# Altium schematic symbol library Sparkfun.SchLib: 1 symbol
Pins are listed as number, name and electrical type; pins without a type are passive.

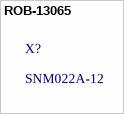
[diagram p0: symbol ROB-13065]

## ROB-13065
designator X?, comment SNM022A-12